# Altium schematic symbol library DCPBoard.SchLib: 4 symbols
Pins are listed as number, name and electrical type; pins without a type are passive.

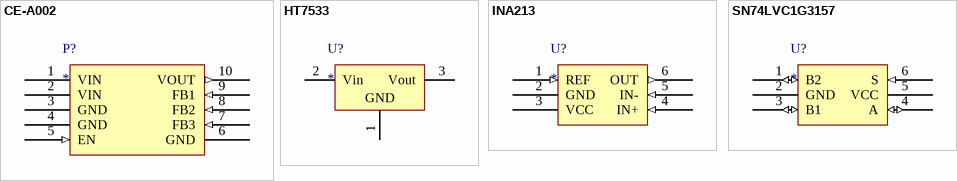
[diagram p0: symbols CE-A002 to SN74LVC1G3157]

## CE-A002
designator P?
DC-DC模块
footprint CE-A002 (DC-DC模块封装)
pins: 1 VIN (power), 2 VIN (power), 3 GND (power), 4 GND (power), 5 EN (in), 6 GND (power), 7 FB3 (in), 8 FB2 (in), 9 FB1 (in), 10 VOUT (out)

## HT7533
designator U?
3.3V稳压
footprint SOT89N (SOT89, 3-Leads, Body 4.5x2.4 mm, Pitch 1.5mm, Lead Span 4.1mm, IPC Medium Density)
pins: 1 GND, 2 Vin, 3 Vout

## INA213
designator U?
电流并联测量
footprint SOT-363-6N (SOT23, 6-Leads, Body 2.2x2.4mm (max), Pitch 0.65mm, IPC Medium Density)
pins: 1 REF (in), 2 GND (power), 3 VCC (power), 4 IN+ (in), 5 IN- (in), 6 OUT (out)

## SN74LVC1G3157
designator U?
SPDT模拟开关
footprint SOT-363-6N (SOT23, 6-Leads, Body 2.2x2.4mm (max), Pitch 0.65mm, IPC Medium Density)
pins: 1 B2 (io), 2 GND (power), 3 B1 (io), 4 A (io), 5 VCC (power), 6 S (in)